# EAGLE library part RJ45_RIGHT_ANGLE (library FCI_RJ12)
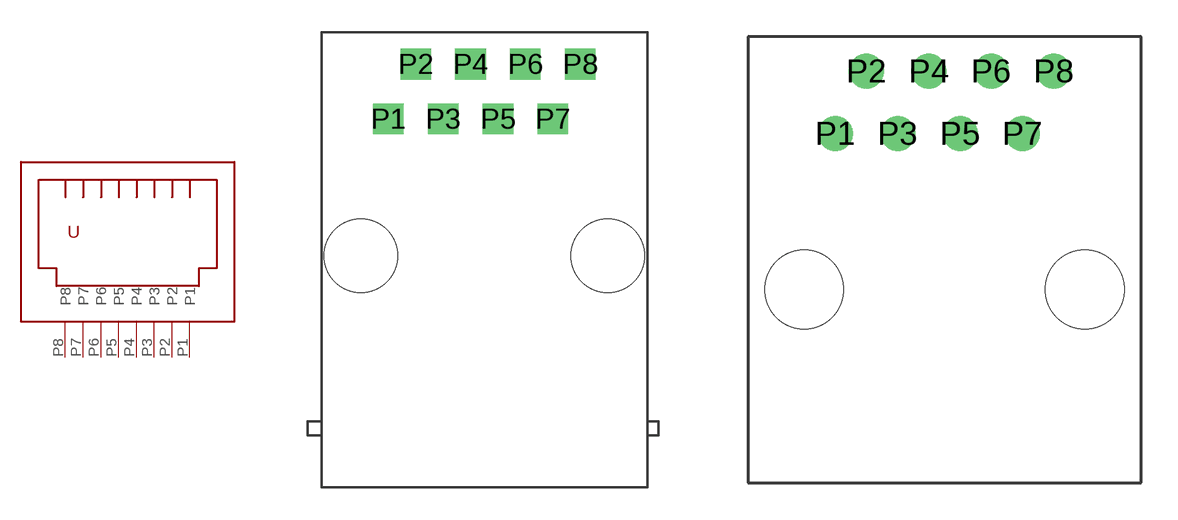
[diagram p1: symbol with the pads of RJ45_RIGHT_ANGLE_PCB; footprints RJ45_RIGHT_ANGLE_PCB, RJ45_RIGHT_ANGLE_MOLEX_95001-2881]

Designator prefix -

## RJ45_RIGHT_ANGLE  [RJ45_RIGHT_ANGLE_PCB]
P1  P1
P2  P2
P3  P3
P4  P4
P5  P5
P6  P6
P7  P7
P8  P8

## RJ45_RIGHT_ANGLEMOLEX_95001-2881  [RJ45_RIGHT_ANGLE_MOLEX_95001-2881]
Pads as for RJ45_RIGHT_ANGLE_PCB

## Footprint RJ45_RIGHT_ANGLE_PCB (pad centres in mm)
drill 0.8 pad 1.422 square: P1 3.099,17.069; P2 4.369,19.609; P3 5.639,17.069; P4 6.909,19.609; P5 8.179,17.069; P6 9.449,19.609; P7 10.719,17.069; P8 11.989,19.609
hole 3.404 at 1.829,10.719
hole 3.404 at 13.259,10.719

## Footprint RJ45_RIGHT_ANGLE_MOLEX_95001-2881 (pad centres in mm)
drill 0.8 pad 1.422 round: P1 -4.445,6.35; P2 -3.175,8.89; P3 -1.905,6.35; P4 -0.635,8.89; P5 0.635,6.35; P6 1.905,8.89; P7 3.175,6.35; P8 4.445,8.89
hole 3.2 at -5.715,0
hole 3.2 at 5.715,0